# EAGLE library part PHOENIX3.5X8-B (library BluJoy-e)
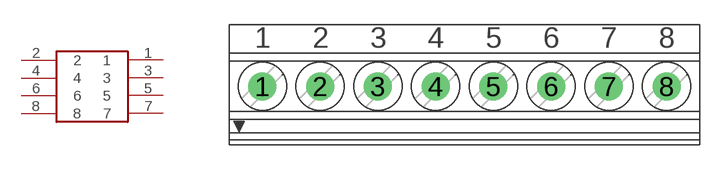
[diagram p3: symbol with the pads of 1751303; footprint 1751303]

Designator prefix -

## PHOENIX3.5X8-B  [1751303]
1  1
2  2
3  3
4  4
5  5
6  6
7  7
8  8

## Footprint 1751303 (pad centres in mm)
MKDS 1/ 8-3,5 Printklemme Nennstrom: 10 A Bemessungsspannung: 160 V Raster: 3,5 mm Polzahl: 8 Montageart: Löten Anschlussart: Schraubanschluss Anschlussrichtung vom Leiter zur Platine: 0° Source: http://eshop.phoenixcontact.com .. 1751303.pdf
drill 1.1 pad 1.7: 1 -12.25,-0.1; 2 -8.75,-0.1; 3 -5.25,-0.1; 4 -1.75,-0.1; 5 1.75,-0.1; 6 5.25,-0.1; 7 8.75,-0.1; 8 12.25,-0.1